# Altium schematic symbol library Fuse DNM.SchLib: 1 symbol
Pins are listed as number, name and electrical type; pins without a type are passive.

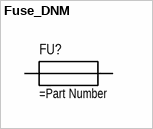
[diagram p0: symbol Fuse_DNM]

## Fuse_DNM
designator FU?  (graphical)